# EAGLE library part IRS2552DPBF (library International_Rectifier_By_element14_Batch_1)
CCFL/EEFL BALLAST CONTROLLER
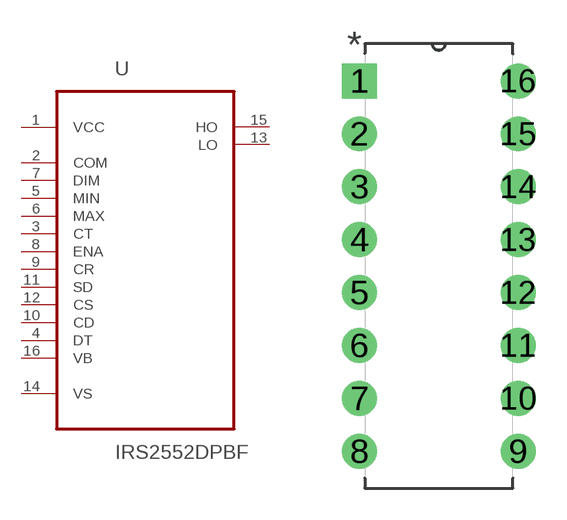
[diagram p102: symbol with the pads of DIP254P762X533-16; footprint DIP254P762X533-16]

Designator prefix U

## IRS2552DPBF (MPN: IRS2552DPBF; OC_FARNELL: 1866039; OC_NEWARK: 39T4527; PACKAGE: DIP-16; SUPPLIER: INTERNATIONAL RECTIFIER)  [DIP254P762X533-16]
1  VCC  pwr
2  COM  pas
3  CT  pas
4  DT  pas
5  MIN  in
6  MAX  in
7  DIM  in
8  ENA  in
9  CR  in
10  CD  in
11  SD  out
12  CS  in
13  LO  out
14  VS  pwr
15  HO  out
16  VB  pas

## Footprint DIP254P762X533-16 (pad centres in mm)
drill 1.118 square: 1 -7.62,17.78
drill 1.118: 2 -7.62,15.24; 3 -7.62,12.7; 4 -7.62,10.16; 5 -7.62,7.62; 6 -7.62,5.08; 7 -7.62,2.54; 8 -7.62,0; 9 0,0; 10 0,2.54; 11 0,5.08; 12 0,7.62; 13 0,10.16; 14 0,12.7; 15 0,15.24; 16 0,17.78